# EAGLE library part SN74LVC1T45DCKR (library NetGeeks)
Texas Instruments SN74LVC1T45DCKR, Bus Transceiver Non-Inverting LVTTL, 1.65 5.5 V, 6-Pin SC-70 Source: Datasheet <http://www.ti.com/lit/gpn/sn74lvc1t45>
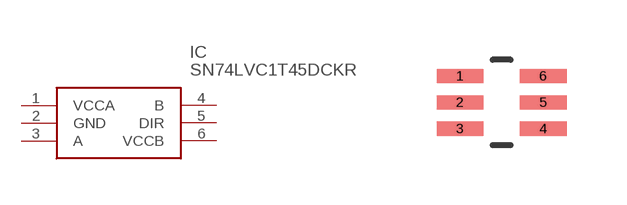
[diagram p7: symbol with the pads of SOT65P210X110-6N; footprint SOT65P210X110-6N]

Designator prefix IC

## SN74LVC1T45DCKR (Arrow_Part_Number: SN74LVC1T45DCKR; Arrow_Price/Stock: https://www.arrow.com/en/products/sn74lvc1t45dckr/texas-instruments; Description: Texas Instruments SN74LVC1T45DCKR, Bus Transceiver Non-Inverting LVTTL, 1.65 5.5 V, 6-Pin SC-70; Height: mm; Manufacturer_Name: Texas Instruments; Manufacturer_Part_Number: SN74LVC1T45DCKR; RS_Part_Number: 7968262P; RS_Price/Stock: http://uk.rs-online.com/web/p/products/7968262P)  [SOT65P210X110-6N]
1  VCCA
2  GND
3  A
4  B
5  DIR
6  VCCB

## Footprint SOT65P210X110-6N (pad centres in mm)
SOT65P210X110-6N
smd 1.168 x 0.356: 1 -1.041,0.66; 2 -1.041,0; 3 -1.041,-0.66; 4 1.041,-0.66; 5 1.041,0; 6 1.041,0.66